# EAGLE library part WIZ810MJ (library ac)
WIZ810MJ (W5100) WIZ810MJ is a network module that includes the W5100 (TCP/IP hardwired chip, include PHY), MAG-JACK (RJ45 with X?FMR) with other glue logics. It can be used as a component and no effort is required to interface W5100 and Transformer.
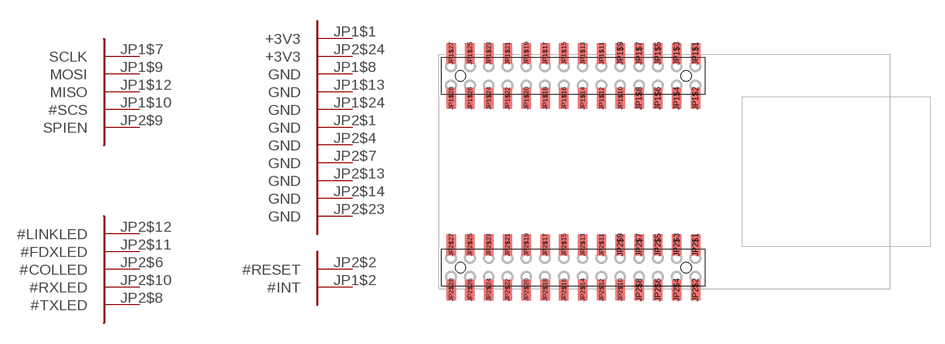
[diagram p0: symbol with the pads of WIZ810MJ-SMT; footprint WIZ810MJ-SMT]

Designator prefix -; gates G$1=WIZ810MJ-PWR G$2=WIZ810MJ-LED G$3=WIZ810MJ-SPI G$4=WIZ810MJ

## WIZ810MJSMT  [WIZ810MJ-SMT]
JP1$1  G$1:+3V3  pwr
JP1$2  G$4:#INT  out
JP1$7  G$3:SCLK  in
JP1$8  G$1:GND  pwr
JP1$9  G$3:MOSI  in
JP1$10  G$3:#SCS  in
JP1$12  G$3:MISO  out
JP1$13  G$1:GND  pwr
JP1$24  G$1:GND  pwr
JP2$1  G$1:GND  pwr
JP2$2  G$4:#RESET  in
JP2$4  G$1:GND  pwr
JP2$6  G$2:#COLLED  out
JP2$7  G$1:GND  pwr
JP2$8  G$2:#TXLED  out
JP2$9  G$3:SPIEN  in
JP2$10  G$2:#RXLED  out
JP2$11  G$2:#FDXLED  out
JP2$12  G$2:#LINKLED  out
JP2$13  G$1:GND  pwr
JP2$14  G$1:GND  pwr
JP2$23  G$1:GND  pwr
JP2$24  G$1:+3V3  pwr

## Footprint WIZ810MJ-SMT (pad centres in mm)
smd 1 x 2.2: JP1$1 13,12.6; JP1$2 13,7.8; JP1$3 11,12.6; JP1$4 11,7.8; JP1$5 9,12.6; JP1$6 9,7.8; JP1$7 7,12.6; JP1$8 7,7.8; JP1$9 5,12.6; JP1$10 5,7.8; JP1$11 3,12.6; JP1$12 3,7.8; JP1$13 1,12.6; JP1$14 1,7.8; JP1$15 -1,12.6; JP1$16 -1,7.8; JP1$17 -3,12.6; JP1$18 -3,7.8; JP1$19 -5,12.6; JP1$20 -5,7.8; JP1$21 -7,12.6; JP1$22 -7,7.8; JP1$23 -9,12.6; JP1$24 -9,7.8; JP1$25 -11,12.6; JP1$26 -11,7.8; JP1$27 -13,12.6; JP1$28 -13,7.8; JP2$1 13,-7.8; JP2$2 13,-12.6; JP2$3 11,-7.8; JP2$4 11,-12.6; JP2$5 9,-7.8; JP2$6 9,-12.6; JP2$7 7,-7.8; JP2$8 7,-12.6; JP2$9 5,-7.8; JP2$10 5,-12.6; JP2$11 3,-7.8; JP2$12 3,-12.6; JP2$13 1,-7.8; JP2$14 1,-12.6; JP2$15 -1,-7.8; JP2$16 -1,-12.6; JP2$17 -3,-7.8; JP2$18 -3,-12.6; JP2$19 -5,-7.8; JP2$20 -5,-12.6; JP2$21 -7,-7.8; JP2$22 -7,-12.6; JP2$23 -9,-7.8; JP2$24 -9,-12.6; JP2$25 -11,-7.8; JP2$26 -11,-12.6; JP2$27 -13,-7.8; JP2$28 -13,-12.6
hole 1.1 at 12,10.2
hole 1.1 at -12,10.2
hole 1.1 at 12,-10.2
hole 1.1 at -12,-10.2